# Altium integrated library NSC LDO.IntLib: 1228 symbols (part 10 of 28)
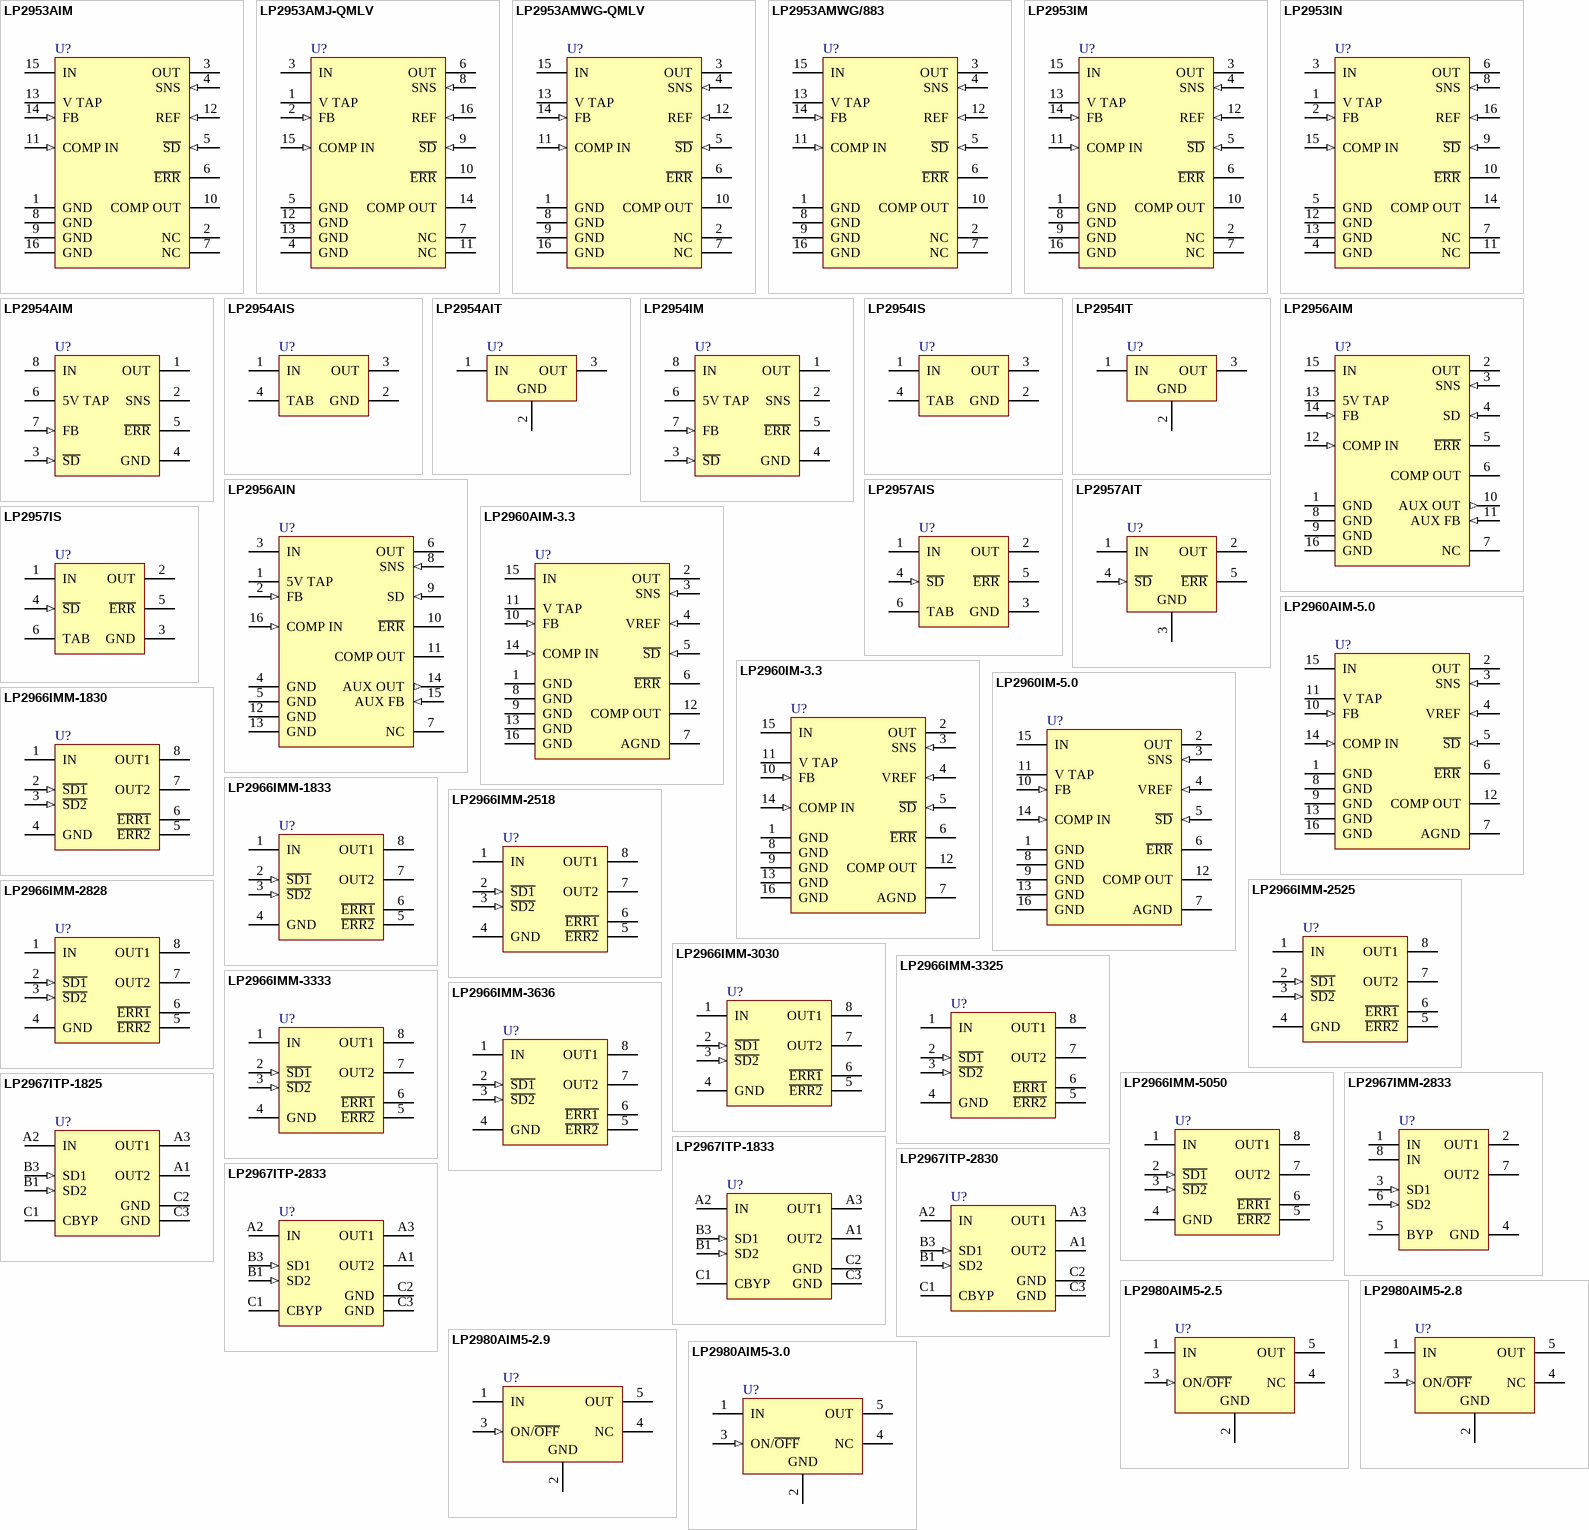
[diagram p39: symbols LP2953AIM to LP2980AIM5-3.0]

## LP2966IMM-2525
designator U?
Dual 150mA Ultra Low-Dropout Regulator; PartNumber: LP2966IMM-2525; Manufacturer: National Semiconductor; CompType: LDO IC; PackageTopMarking: ZXTT*LAAB; PowerWise: N; Published: 4-Dec-2008; DatasheetVersion: Mar-2005; PackageVersion: revF, Apr-2008; PackageReference: MUA08A; Publisher: Altium Limited; PackageDescription: MINI SOIC, .118 x .118 x .034in, 8 Lead, .0256in Pitch; RoHS: Y; PinCount: 8; DigiKeyPartNumber: LP2966IMM-2525CT-ND; Code_JEDEC: MO-187-AA; ComponentLink1Description: LP2966 Datasheet; ComponentLink1URL: http://www.national.com/ds/LP/LP2966.pdf; ComponentLink2Description: LP2966 Web Page; ComponentLink2URL: http://www.national.com/pf/LP/LP2966.html; ComponentLink3Description: MUA08A Package Page; ComponentLink3URL: http://www.national.com/packaging/folders/mua08a.html
footprint MUA08A_N (TSOP, 8-Leads, Body 3x3mm, Pitch 0.65mm, IPC Medium Density)
footprint MUA08A_L (TSOP, 8-Leads, Body 3x3mm, Pitch 0.65mm, IPC High Density)
footprint MUA08A_M (TSOP, 8-Leads, Body 3x3mm, Pitch 0.65mm, IPC Low Density)
pins: 1 IN (power), 2 ~{SD1} (in), 3 ~{SD2} (in), 4 GND (power), 5 ~{ERR2} (oc), 6 ~{ERR1} (oc), 7 OUT2 (power), 8 OUT1 (power)

## LP2966IMM-2828
designator U?
Dual 150mA Ultra Low-Dropout Regulator; PartNumber: LP2966IMM-2828; Manufacturer: National Semiconductor; CompType: LDO IC; PackageTopMarking: ZXTT*LABB; PowerWise: N; Published: 4-Dec-2008; DatasheetVersion: Mar-2005; PackageVersion: revF, Apr-2008; PackageReference: MUA08A; Publisher: Altium Limited; PackageDescription: MINI SOIC, .118 x .118 x .034in, 8 Lead, .0256in Pitch; RoHS: Y; PinCount: 8; DigiKeyPartNumber: LP2966IMM-2828CT-ND; Code_JEDEC: MO-187-AA; ComponentLink1Description: LP2966 Datasheet; ComponentLink1URL: http://www.national.com/ds/LP/LP2966.pdf; ComponentLink2Description: LP2966 Web Page; ComponentLink2URL: http://www.national.com/pf/LP/LP2966.html; ComponentLink3Description: MUA08A Package Page; ComponentLink3URL: http://www.national.com/packaging/folders/mua08a.html
footprint MUA08A_N (TSOP, 8-Leads, Body 3x3mm, Pitch 0.65mm, IPC Medium Density)
footprint MUA08A_L (TSOP, 8-Leads, Body 3x3mm, Pitch 0.65mm, IPC High Density)
footprint MUA08A_M (TSOP, 8-Leads, Body 3x3mm, Pitch 0.65mm, IPC Low Density)
pins: 1 IN (power), 2 ~{SD1} (in), 3 ~{SD2} (in), 4 GND (power), 5 ~{ERR2} (oc), 6 ~{ERR1} (oc), 7 OUT2 (power), 8 OUT1 (power)

## LP2966IMM-3030
designator U?
Dual 150mA Ultra Low-Dropout Regulator; PartNumber: LP2966IMM-3030; Manufacturer: National Semiconductor; CompType: LDO IC; PackageTopMarking: ZXTT*LACB; Published: 4-Dec-2008; DatasheetVersion: Mar-2005; PackageVersion: revF, Apr-2008; PackageReference: MUA08A; Publisher: Altium Limited; PackageDescription: MINI SOIC, .118 x .118 x .034in, 8 Lead, .0256in Pitch; RoHS: Y; PinCount: 8; DigiKeyPartNumber: LP2966IMM-3030CT-ND; Code_JEDEC: MO-187-AA; ComponentLink1Description: LP2966 Datasheet; ComponentLink1URL: http://www.national.com/ds/LP/LP2966.pdf; ComponentLink2Description: LP2966 Web Page; ComponentLink2URL: http://www.national.com/pf/LP/LP2966.html; ComponentLink3Description: MUA08A Package Page; ComponentLink3URL: http://www.national.com/packaging/folders/mua08a.html
footprint MUA08A_N (TSOP, 8-Leads, Body 3x3mm, Pitch 0.65mm, IPC Medium Density)
footprint MUA08A_L (TSOP, 8-Leads, Body 3x3mm, Pitch 0.65mm, IPC High Density)
footprint MUA08A_M (TSOP, 8-Leads, Body 3x3mm, Pitch 0.65mm, IPC Low Density)
pins: 1 IN (power), 2 ~{SD1} (in), 3 ~{SD2} (in), 4 GND (power), 5 ~{ERR2} (oc), 6 ~{ERR1} (oc), 7 OUT2 (power), 8 OUT1 (power)

## LP2966IMM-3325
designator U?
Dual 150mA Ultra Low-Dropout Regulator; PartNumber: LP2966IMM-3325; Manufacturer: National Semiconductor; CompType: LDO IC; PackageTopMarking: ZXTT*LARB; PowerWise: N; Published: 4-Dec-2008; DatasheetVersion: Mar-2005; PackageVersion: revF, Apr-2008; PackageReference: MUA08A; Publisher: Altium Limited; PackageDescription: MINI SOIC, .118 x .118 x .034in, 8 Lead, .0256in Pitch; RoHS: O; PinCount: 8; DigiKeyPartNumber: LP2966IMM-3325CT-ND; Code_JEDEC: MO-187-AA; ComponentLink1Description: LP2966 Datasheet; ComponentLink1URL: http://www.national.com/ds/LP/LP2966.pdf; ComponentLink2Description: LP2966 Web Page; ComponentLink2URL: http://www.national.com/pf/LP/LP2966.html; ComponentLink3Description: MUA08A Package Page; ComponentLink3URL: http://www.national.com/packaging/folders/mua08a.html
footprint MUA08A_N (TSOP, 8-Leads, Body 3x3mm, Pitch 0.65mm, IPC Medium Density)
footprint MUA08A_L (TSOP, 8-Leads, Body 3x3mm, Pitch 0.65mm, IPC High Density)
footprint MUA08A_M (TSOP, 8-Leads, Body 3x3mm, Pitch 0.65mm, IPC Low Density)
pins: 1 IN (power), 2 ~{SD1} (in), 3 ~{SD2} (in), 4 GND (power), 5 ~{ERR2} (oc), 6 ~{ERR1} (oc), 7 OUT2 (power), 8 OUT1 (power)

## LP2966IMM-3333
designator U?
Dual 150mA Ultra Low-Dropout Regulator; PartNumber: LP2966IMM-3333; Manufacturer: National Semiconductor; CompType: LDO IC; PackageTopMarking: ZXTT*LADB; Published: 4-Dec-2008; DatasheetVersion: Mar-2005; PackageVersion: revF, Apr-2008; PackageReference: MUA08A; Publisher: Altium Limited; PackageDescription: MINI SOIC, .118 x .118 x .034in, 8 Lead, .0256in Pitch; RoHS: Y; PinCount: 8; DigiKeyPartNumber: LP2966IMM-3333CT-ND; Code_JEDEC: MO-187-AA; ComponentLink1Description: LP2966 Datasheet; ComponentLink1URL: http://www.national.com/ds/LP/LP2966.pdf; ComponentLink2Description: LP2966 Web Page; ComponentLink2URL: http://www.national.com/pf/LP/LP2966.html; ComponentLink3Description: MUA08A Package Page; ComponentLink3URL: http://www.national.com/packaging/folders/mua08a.html
footprint MUA08A_N (TSOP, 8-Leads, Body 3x3mm, Pitch 0.65mm, IPC Medium Density)
footprint MUA08A_L (TSOP, 8-Leads, Body 3x3mm, Pitch 0.65mm, IPC High Density)
footprint MUA08A_M (TSOP, 8-Leads, Body 3x3mm, Pitch 0.65mm, IPC Low Density)
pins: 1 IN (power), 2 ~{SD1} (in), 3 ~{SD2} (in), 4 GND (power), 5 ~{ERR2} (oc), 6 ~{ERR1} (oc), 7 OUT2 (power), 8 OUT1 (power)

## LP2966IMM-3636
designator U?
Dual 150mA Ultra Low-Dropout Regulator; PartNumber: LP2966IMM-3636; Manufacturer: National Semiconductor; CompType: LDO IC; PackageTopMarking: ZXTT*LAEB; Published: 4-Dec-2008; DatasheetVersion: Mar-2005; PackageVersion: revF, Apr-2008; PackageReference: MUA08A; Publisher: Altium Limited; PackageDescription: MINI SOIC, .118 x .118 x .034in, 8 Lead, .0256in Pitch; RoHS: Y; PinCount: 8; DigiKeyPartNumber: LP2966IMM-3636CT-ND; Code_JEDEC: MO-187-AA; ComponentLink1Description: LP2966 Datasheet; ComponentLink1URL: http://www.national.com/ds/LP/LP2966.pdf; ComponentLink2Description: LP2966 Web Page; ComponentLink2URL: http://www.national.com/pf/LP/LP2966.html; ComponentLink3Description: MUA08A Package Page; ComponentLink3URL: http://www.national.com/packaging/folders/mua08a.html
footprint MUA08A_N (TSOP, 8-Leads, Body 3x3mm, Pitch 0.65mm, IPC Medium Density)
footprint MUA08A_L (TSOP, 8-Leads, Body 3x3mm, Pitch 0.65mm, IPC High Density)
footprint MUA08A_M (TSOP, 8-Leads, Body 3x3mm, Pitch 0.65mm, IPC Low Density)
pins: 1 IN (power), 2 ~{SD1} (in), 3 ~{SD2} (in), 4 GND (power), 5 ~{ERR2} (oc), 6 ~{ERR1} (oc), 7 OUT2 (power), 8 OUT1 (power)

## LP2966IMM-5050
designator U?
Dual 150mA Ultra Low-Dropout Regulator; PartNumber: LP2966IMM-5050; Manufacturer: National Semiconductor; CompType: LDO IC; PackageTopMarking: ZXTT*LAFB; PowerWise: N; Published: 4-Dec-2008; DatasheetVersion: Mar-2005; PackageVersion: revF, Apr-2008; PackageReference: MUA08A; Publisher: Altium Limited; PackageDescription: MINI SOIC, .118 x .118 x .034in, 8 Lead, .0256in Pitch; RoHS: Y; PinCount: 8; DigiKeyPartNumber: LP2966IMM-5050CT-ND; Code_JEDEC: MO-187-AA; ComponentLink1Description: LP2966 Datasheet; ComponentLink1URL: http://www.national.com/ds/LP/LP2966.pdf; ComponentLink2Description: LP2966 Web Page; ComponentLink2URL: http://www.national.com/pf/LP/LP2966.html; ComponentLink3Description: MUA08A Package Page; ComponentLink3URL: http://www.national.com/packaging/folders/mua08a.html
footprint MUA08A_N (TSOP, 8-Leads, Body 3x3mm, Pitch 0.65mm, IPC Medium Density)
footprint MUA08A_L (TSOP, 8-Leads, Body 3x3mm, Pitch 0.65mm, IPC High Density)
footprint MUA08A_M (TSOP, 8-Leads, Body 3x3mm, Pitch 0.65mm, IPC Low Density)
pins: 1 IN (power), 2 ~{SD1} (in), 3 ~{SD2} (in), 4 GND (power), 5 ~{ERR2} (oc), 6 ~{ERR1} (oc), 7 OUT2 (power), 8 OUT1 (power)

## LP2967IMM-2833
designator U?
Dual Micropower 150 mA Low-Dropout Regulator in micro SMD Package; PartNumber: LP2967IMM-2833; Manufacturer: National Semiconductor; CompType: LDO IC; PackageTopMarking: ZXTT*LCCB; Published: 4-Dec-2008; DatasheetVersion: Jun-2005; PackageVersion: revF, Apr-2008; PackageReference: MUA08A; Publisher: Altium Limited; PackageDescription: MINI SOIC, .118 x .118 x .034in, 8 Lead, .0256in Pitch; RoHS: Y; PinCount: 8; DigiKeyPartNumber: LP2967IMM-2833CT-ND; Code_JEDEC: MO-187-AA; ComponentLink1Description: LP2967 Datasheet; ComponentLink1URL: http://www.national.com/ds/LP/LP2967.pdf; ComponentLink2Description: LP2967 Web Page; ComponentLink2URL: http://www.national.com/pf/LP/LP2967.html; ComponentLink3Description: MUA08A Package Page; ComponentLink3URL: http://www.national.com/packaging/folders/mua08a.html
footprint MUA08A_N (TSOP, 8-Leads, Body 3x3mm, Pitch 0.65mm, IPC Medium Density)
footprint MUA08A_L (TSOP, 8-Leads, Body 3x3mm, Pitch 0.65mm, IPC High Density)
footprint MUA08A_M (TSOP, 8-Leads, Body 3x3mm, Pitch 0.65mm, IPC Low Density)
pins: 1 IN (power), 2 OUT1 (power), 3 SD1 (in), 4 GND (power), 5 BYP, 6 SD2 (in), 7 OUT2 (power), 8 IN (power)

## LP2967ITP-1825
designator U?
Dual Micropower 150 mA Low-Dropout Regulator in micro SMD Package; PartNumber: LP2967ITP-1825; Manufacturer: National Semiconductor; CompType: LDO IC; PackageTopMarking: XVL*I 07; PowerWise: N; Published: 4-Dec-2008; DatasheetVersion: Jun-2005; PackageVersion: revA, Mar-2002; PackageReference: TPA08F5A; Publisher: Altium Limited; PackageDescription: Thin Micro SMD, 8 Bump, 0.5mm Pitch; RoHS: Y; PinCount: 8; DigiKeyPartNumber: LP2967ITP-1825CT-ND; Code_JEDEC: MO-211-BC; ComponentLink1Description: LP2967 Datasheet; ComponentLink1URL: http://www.national.com/ds/LP/LP2967.pdf; ComponentLink2Description: LP2967 Web Page; ComponentLink2URL: http://www.national.com/pf/LP/LP2967.html; ComponentLink3Description: TPA08F5A Package Page; ComponentLink3URL: http://www.national.com/packaging/folders/tpa08f5a.html
footprint TPA08F5A (Micro SMD, 8-Leads, Body 1.95x1.41mm, Pitch 0.5mm, NSC Recommended)
pins: A1 OUT2 (power), A2 IN (power), A3 OUT1 (power), B1 SD2 (in), B3 SD1 (in), C1 CBYP, C2 GND (power), C3 GND (power)

## LP2967ITP-1833
designator U?
Dual Micropower 150 mA Low-Dropout Regulator in micro SMD Package; PartNumber: LP2967ITP-1833; Manufacturer: National Semiconductor; CompType: LDO IC; PackageTopMarking: XVL*I 11; PowerWise: N; Published: 4-Dec-2008; DatasheetVersion: Jun-2005; PackageVersion: revA, Mar-2002; PackageReference: TPA08F5A; Publisher: Altium Limited; PackageDescription: Thin Micro SMD, 8 Bump, 0.5mm Pitch; RoHS: Y; PinCount: 8; DigiKeyPartNumber: LP2967ITP-1833CT-ND; Code_JEDEC: MO-211-BC; ComponentLink1Description: LP2967 Datasheet; ComponentLink1URL: http://www.national.com/ds/LP/LP2967.pdf; ComponentLink2Description: LP2967 Web Page; ComponentLink2URL: http://www.national.com/pf/LP/LP2967.html; ComponentLink3Description: TPA08F5A Package Page; ComponentLink3URL: http://www.national.com/packaging/folders/tpa08f5a.html
footprint TPA08F5A (Micro SMD, 8-Leads, Body 1.95x1.41mm, Pitch 0.5mm, NSC Recommended)
pins: A1 OUT2 (power), A2 IN (power), A3 OUT1 (power), B1 SD2 (in), B3 SD1 (in), C1 CBYP, C2 GND (power), C3 GND (power)

## LP2967ITP-2830
designator U?
Dual Micropower 150 mA Low-Dropout Regulator in micro SMD Package; PartNumber: LP2967ITP-2830; Manufacturer: National Semiconductor; CompType: LDO IC; PackageTopMarking: XVL*I 22; PowerWise: N; Published: 4-Dec-2008; DatasheetVersion: Jun-2005; PackageVersion: revA, Mar-2002; PackageReference: TPA08F5A; Publisher: Altium Limited; PackageDescription: Thin Micro SMD, 8 Bump, 0.5mm Pitch; RoHS: Y; PinCount: 8; DigiKeyPartNumber: LP2967ITP-2830CT-ND; Code_JEDEC: MO-211-BC; ComponentLink1Description: LP2967 Datasheet; ComponentLink1URL: http://www.national.com/ds/LP/LP2967.pdf; ComponentLink2Description: LP2967 Web Page; ComponentLink2URL: http://www.national.com/pf/LP/LP2967.html; ComponentLink3Description: TPA08F5A Package Page; ComponentLink3URL: http://www.national.com/packaging/folders/tpa08f5a.html
footprint TPA08F5A (Micro SMD, 8-Leads, Body 1.95x1.41mm, Pitch 0.5mm, NSC Recommended)
pins: A1 OUT2 (power), A2 IN (power), A3 OUT1 (power), B1 SD2 (in), B3 SD1 (in), C1 CBYP, C2 GND (power), C3 GND (power)

## LP2967ITP-2833
designator U?
Dual Micropower 150 mA Low-Dropout Regulator in micro SMD Package; PartNumber: LP2967ITP-2833; Manufacturer: National Semiconductor; CompType: LDO IC; PackageTopMarking: XVL*I 09; PowerWise: N; Published: 4-Dec-2008; DatasheetVersion: Jun-2005; PackageVersion: revA, Mar-2002; PackageReference: TPA08F5A; Publisher: Altium Limited; PackageDescription: Thin Micro SMD, 8 Bump, 0.5mm Pitch; RoHS: Y; PinCount: 8; DigiKeyPartNumber: LP2967ITP-2833CT-ND; Code_JEDEC: MO-211-BC; ComponentLink1Description: LP2967 Datasheet; ComponentLink1URL: http://www.national.com/ds/LP/LP2967.pdf; ComponentLink2Description: LP2967 Web Page; ComponentLink2URL: http://www.national.com/pf/LP/LP2967.html; ComponentLink3Description: TPA08F5A Package Page; ComponentLink3URL: http://www.national.com/packaging/folders/tpa08f5a.html
footprint TPA08F5A (Micro SMD, 8-Leads, Body 1.95x1.41mm, Pitch 0.5mm, NSC Recommended)
pins: A1 OUT2 (power), A2 IN (power), A3 OUT1 (power), B1 SD2 (in), B3 SD1 (in), C1 CBYP, C2 GND (power), C3 GND (power)

## LP2980AIM5-2.5
designator U?
Micropower 50 mA Ultra Low-Dropout Regulator In SOT-23 and micro SMD Packages; PartNumber: LP2980AIM5-2.5; Manufacturer: National Semiconductor; CompType: LDO IC; PackageTopMarking: L0NA*XTT; PowerWise: N; Published: 4-Dec-2008; DatasheetVersion: Sep-2006; PackageVersion: revD, Aug-2008; PackageReference: MF05A; Publisher: Altium Limited; PackageDescription: Molded SOT-23, .115 x .063 x .040 in Body, 5 Lead, .0375 in Pitch; RoHS: O; PinCount: 5; DigiKeyPartNumber: LP2980AIM5-2.5CT-ND; ComponentLink1Description: LP2980 Datasheet; ComponentLink1URL: http://www.national.com/ds/LP/LP2980.pdf; ComponentLink2Description: LP2980 Web Page; ComponentLink2URL: http://www.national.com/pf/LP/LP2980.html; ComponentLink3Description: MF05A Package Page; ComponentLink3URL: http://www.national.com/packaging/folders/mf05a.html
footprint MF05A_N (SOT23, 5-Leads, Body 2.9x1.6mm, Pitch 0.95mm, Lead Span 2.8mm, IPC Medium Density)
footprint MF05A_L (SOT23, 5-Leads, Body 2.9x1.6mm, Pitch 0.95mm, Lead Span 2.8mm, IPC High Density)
footprint MF05A_M (SOT23, 5-Leads, Body 2.9x1.6mm, Pitch 0.95mm, Lead Span 2.8mm, IPC Low Density)
pins: 1 IN (power), 2 GND (power), 3 ON/~{OFF} (in), 4 NC, 5 OUT (power)

## LP2980AIM5-2.8
designator U?
Micropower 50 mA Ultra Low-Dropout Regulator In SOT-23 and micro SMD Packages; PartNumber: LP2980AIM5-2.8; Manufacturer: National Semiconductor; CompType: LDO IC; PackageTopMarking: L13A*XTT; Published: 4-Dec-2008; DatasheetVersion: Sep-2006; PackageVersion: revD, Aug-2008; PackageReference: MF05A; Publisher: Altium Limited; PackageDescription: Molded SOT-23, .115 x .063 x .040 in Body, 5 Lead, .0375 in Pitch; RoHS: Y; PinCount: 5; DigiKeyPartNumber: LP2980AIM5-2.8-ND; ComponentLink1Description: LP2980 Datasheet; ComponentLink1URL: http://www.national.com/ds/LP/LP2980.pdf; ComponentLink2Description: LP2980 Web Page; ComponentLink2URL: http://www.national.com/pf/LP/LP2980.html; ComponentLink3Description: MF05A Package Page; ComponentLink3URL: http://www.national.com/packaging/folders/mf05a.html
footprint MF05A_N (SOT23, 5-Leads, Body 2.9x1.6mm, Pitch 0.95mm, Lead Span 2.8mm, IPC Medium Density)
footprint MF05A_L (SOT23, 5-Leads, Body 2.9x1.6mm, Pitch 0.95mm, Lead Span 2.8mm, IPC High Density)
footprint MF05A_M (SOT23, 5-Leads, Body 2.9x1.6mm, Pitch 0.95mm, Lead Span 2.8mm, IPC Low Density)
pins: 1 IN (power), 2 GND (power), 3 ON/~{OFF} (in), 4 NC, 5 OUT (power)

## LP2980AIM5-2.9
designator U?
Micropower 50 mA Ultra Low-Dropout Regulator In SOT-23 and micro SMD Packages; PartNumber: LP2980AIM5-2.9; Manufacturer: National Semiconductor; CompType: LDO IC; PackageTopMarking: L12A*XTT; Published: 4-Dec-2008; DatasheetVersion: Sep-2006; PackageVersion: revD, Aug-2008; PackageReference: MF05A; Publisher: Altium Limited; PackageDescription: Molded SOT-23, .115 x .063 x .040 in Body, 5 Lead, .0375 in Pitch; RoHS: Y; PinCount: 5; DigiKeyPartNumber: LP2980AIM5-2.9-ND; ComponentLink1Description: LP2980 Datasheet; ComponentLink1URL: http://www.national.com/ds/LP/LP2980.pdf; ComponentLink2Description: LP2980 Web Page; ComponentLink2URL: http://www.national.com/pf/LP/LP2980.html; ComponentLink3Description: MF05A Package Page; ComponentLink3URL: http://www.national.com/packaging/folders/mf05a.html
footprint MF05A_N (SOT23, 5-Leads, Body 2.9x1.6mm, Pitch 0.95mm, Lead Span 2.8mm, IPC Medium Density)
footprint MF05A_L (SOT23, 5-Leads, Body 2.9x1.6mm, Pitch 0.95mm, Lead Span 2.8mm, IPC High Density)
footprint MF05A_M (SOT23, 5-Leads, Body 2.9x1.6mm, Pitch 0.95mm, Lead Span 2.8mm, IPC Low Density)
pins: 1 IN (power), 2 GND (power), 3 ON/~{OFF} (in), 4 NC, 5 OUT (power)

## LP2980AIM5-3.0
designator U?
Micropower 50 mA Ultra Low-Dropout Regulator In SOT-23 and micro SMD Packages; PartNumber: LP2980AIM5-3.0; Manufacturer: National Semiconductor; CompType: LDO IC; PackageTopMarking: L02A*XTT; PowerWise: N; Published: 4-Dec-2008; DatasheetVersion: Sep-2006; PackageVersion: revD, Aug-2008; PackageReference: MF05A; Publisher: Altium Limited; PackageDescription: Molded SOT-23, .115 x .063 x .040 in Body, 5 Lead, .0375 in Pitch; RoHS: O; PinCount: 5; DigiKeyPartNumber: LP2980AIM5-3.0CT-ND; ComponentLink1Description: LP2980 Datasheet; ComponentLink1URL: http://www.national.com/ds/LP/LP2980.pdf; ComponentLink2Description: LP2980 Web Page; ComponentLink2URL: http://www.national.com/pf/LP/LP2980.html; ComponentLink3Description: MF05A Package Page; ComponentLink3URL: http://www.national.com/packaging/folders/mf05a.html
footprint MF05A_N (SOT23, 5-Leads, Body 2.9x1.6mm, Pitch 0.95mm, Lead Span 2.8mm, IPC Medium Density)
footprint MF05A_L (SOT23, 5-Leads, Body 2.9x1.6mm, Pitch 0.95mm, Lead Span 2.8mm, IPC High Density)
footprint MF05A_M (SOT23, 5-Leads, Body 2.9x1.6mm, Pitch 0.95mm, Lead Span 2.8mm, IPC Low Density)
pins: 1 IN (power), 2 GND (power), 3 ON/~{OFF} (in), 4 NC, 5 OUT (power)

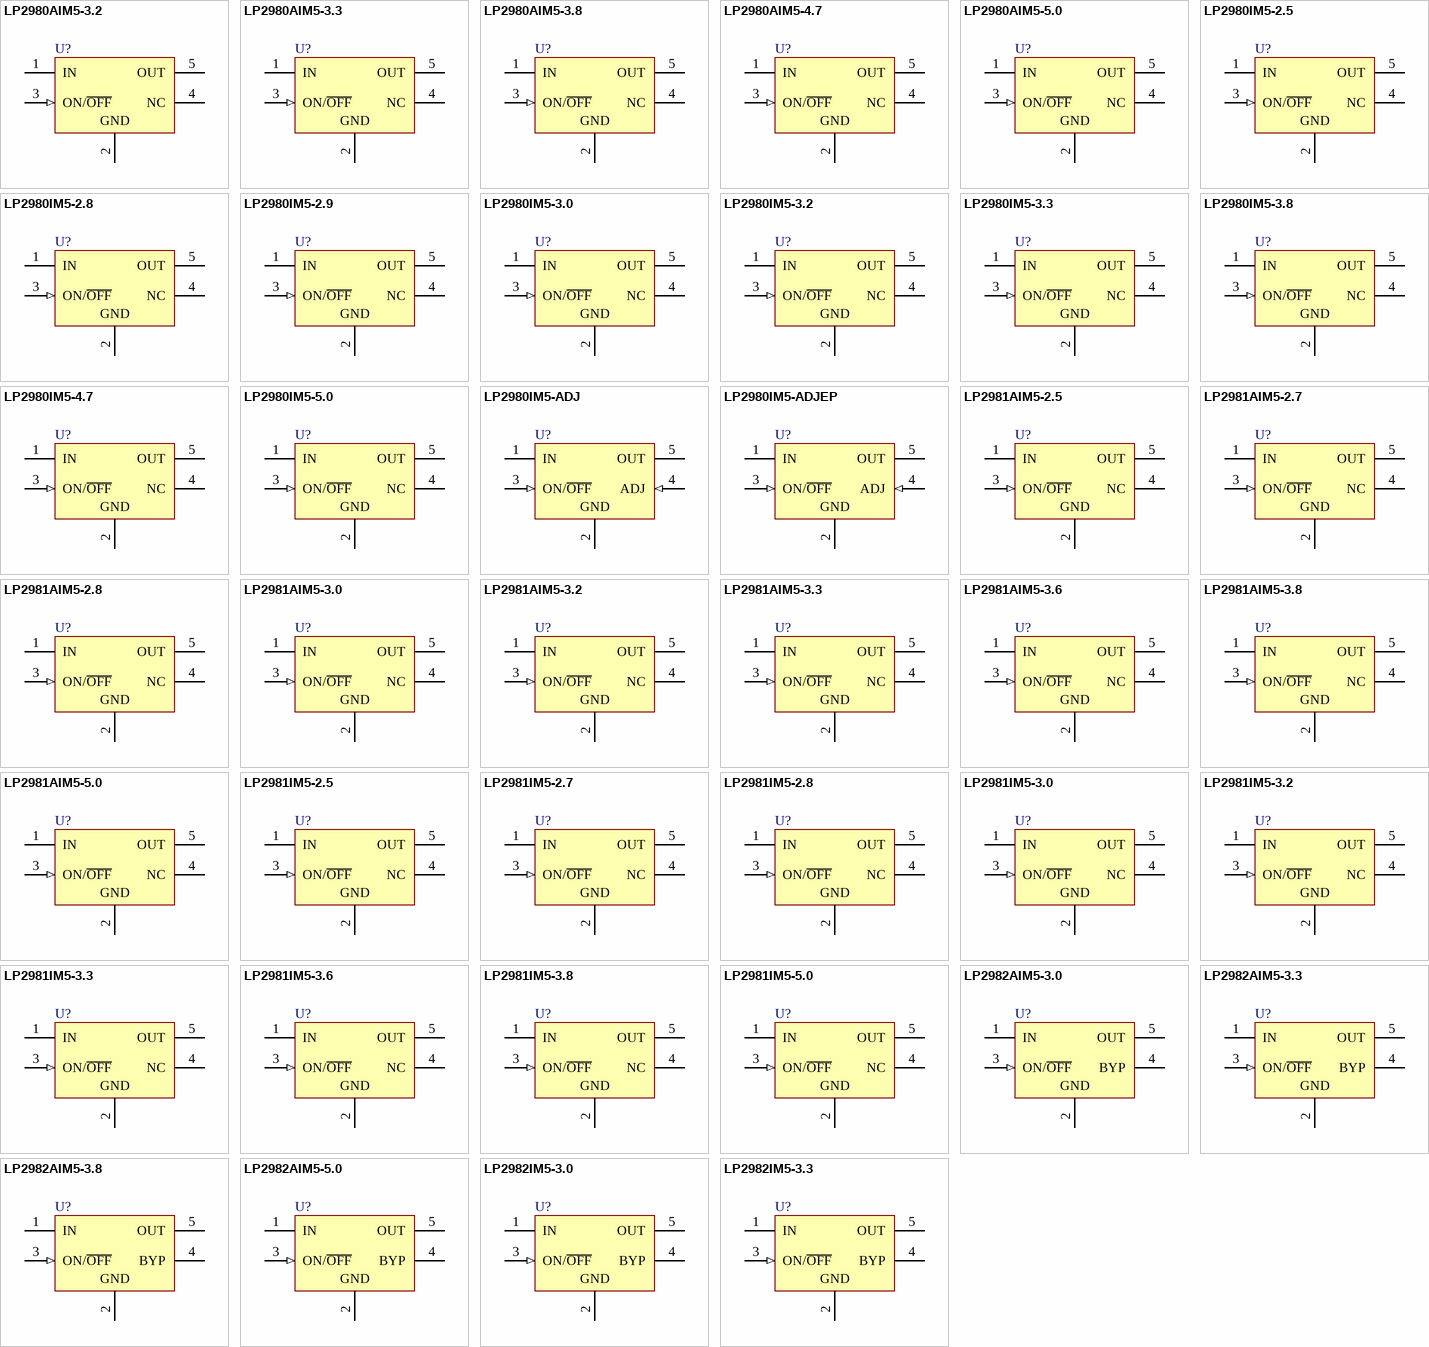
[diagram p11: symbols LP2980AIM5-3.2 to LP2982IM5-3.3]

## LP2980AIM5-3.2
designator U?
Micropower 50 mA Ultra Low-Dropout Regulator In SOT-23 and micro SMD Packages; PartNumber: LP2980AIM5-3.2; Manufacturer: National Semiconductor; CompType: LDO IC; PackageTopMarking: L31A*XTT; Published: 4-Dec-2008; DatasheetVersion: Sep-2006; PackageVersion: revD, Aug-2008; PackageReference: MF05A; Publisher: Altium Limited; PackageDescription: Molded SOT-23, .115 x .063 x .040 in Body, 5 Lead, .0375 in Pitch; RoHS: Y; PinCount: 5; DigiKeyPartNumber: LP2980AIM5-3.2-ND; ComponentLink1Description: LP2980 Datasheet; ComponentLink1URL: http://www.national.com/ds/LP/LP2980.pdf; ComponentLink2Description: LP2980 Web Page; ComponentLink2URL: http://www.national.com/pf/LP/LP2980.html; ComponentLink3Description: MF05A Package Page; ComponentLink3URL: http://www.national.com/packaging/folders/mf05a.html
footprint MF05A_N (SOT23, 5-Leads, Body 2.9x1.6mm, Pitch 0.95mm, Lead Span 2.8mm, IPC Medium Density)
footprint MF05A_L (SOT23, 5-Leads, Body 2.9x1.6mm, Pitch 0.95mm, Lead Span 2.8mm, IPC High Density)
footprint MF05A_M (SOT23, 5-Leads, Body 2.9x1.6mm, Pitch 0.95mm, Lead Span 2.8mm, IPC Low Density)
pins: 1 IN (power), 2 GND (power), 3 ON/~{OFF} (in), 4 NC, 5 OUT (power)

## LP2980AIM5-3.3
designator U?
Micropower 50 mA Ultra Low-Dropout Regulator In SOT-23 and micro SMD Packages; PartNumber: LP2980AIM5-3.3; Manufacturer: National Semiconductor; CompType: LDO IC; PackageTopMarking: L00A*XTT; PowerWise: N; Published: 4-Dec-2008; DatasheetVersion: Sep-2006; PackageVersion: revD, Aug-2008; PackageReference: MF05A; Publisher: Altium Limited; PackageDescription: Molded SOT-23, .115 x .063 x .040 in Body, 5 Lead, .0375 in Pitch; RoHS: O; PinCount: 5; DigiKeyPartNumber: LP2980AIM5-3.3CT-ND; ComponentLink1Description: LP2980 Datasheet; ComponentLink1URL: http://www.national.com/ds/LP/LP2980.pdf; ComponentLink2Description: LP2980 Web Page; ComponentLink2URL: http://www.national.com/pf/LP/LP2980.html; ComponentLink3Description: MF05A Package Page; ComponentLink3URL: http://www.national.com/packaging/folders/mf05a.html
footprint MF05A_N (SOT23, 5-Leads, Body 2.9x1.6mm, Pitch 0.95mm, Lead Span 2.8mm, IPC Medium Density)
footprint MF05A_L (SOT23, 5-Leads, Body 2.9x1.6mm, Pitch 0.95mm, Lead Span 2.8mm, IPC High Density)
footprint MF05A_M (SOT23, 5-Leads, Body 2.9x1.6mm, Pitch 0.95mm, Lead Span 2.8mm, IPC Low Density)
pins: 1 IN (power), 2 GND (power), 3 ON/~{OFF} (in), 4 NC, 5 OUT (power)

## LP2980AIM5-3.8
designator U?
Micropower 50 mA Ultra Low-Dropout Regulator In SOT-23 and micro SMD Packages; PartNumber: LP2980AIM5-3.8; Manufacturer: National Semiconductor; CompType: LDO IC; PackageTopMarking: L21A*XTT; Published: 4-Dec-2008; DatasheetVersion: Sep-2006; PackageVersion: revD, Aug-2008; PackageReference: MF05A; Publisher: Altium Limited; PackageDescription: Molded SOT-23, .115 x .063 x .040 in Body, 5 Lead, .0375 in Pitch; RoHS: Y; PinCount: 5; DigiKeyPartNumber: LP2980AIM5-3.8-ND; ComponentLink1Description: LP2980 Datasheet; ComponentLink1URL: http://www.national.com/ds/LP/LP2980.pdf; ComponentLink2Description: LP2980 Web Page; ComponentLink2URL: http://www.national.com/pf/LP/LP2980.html; ComponentLink3Description: MF05A Package Page; ComponentLink3URL: http://www.national.com/packaging/folders/mf05a.html
footprint MF05A_N (SOT23, 5-Leads, Body 2.9x1.6mm, Pitch 0.95mm, Lead Span 2.8mm, IPC Medium Density)
footprint MF05A_L (SOT23, 5-Leads, Body 2.9x1.6mm, Pitch 0.95mm, Lead Span 2.8mm, IPC High Density)
footprint MF05A_M (SOT23, 5-Leads, Body 2.9x1.6mm, Pitch 0.95mm, Lead Span 2.8mm, IPC Low Density)
pins: 1 IN (power), 2 GND (power), 3 ON/~{OFF} (in), 4 NC, 5 OUT (power)

## LP2980AIM5-4.7
designator U?
Micropower 50 mA Ultra Low-Dropout Regulator In SOT-23 and micro SMD Packages; PartNumber: LP2980AIM5-4.7; Manufacturer: National Semiconductor; CompType: LDO IC; PackageTopMarking: L37A*XTT; PowerWise: N; Published: 4-Dec-2008; DatasheetVersion: Sep-2006; PackageVersion: revD, Aug-2008; PackageReference: MF05A; Publisher: Altium Limited; PackageDescription: Molded SOT-23, .115 x .063 x .040 in Body, 5 Lead, .0375 in Pitch; RoHS: Y; PinCount: 5; DigiKeyPartNumber: LP2980AIM5-4.7-ND; ComponentLink1Description: LP2980 Datasheet; ComponentLink1URL: http://www.national.com/ds/LP/LP2980.pdf; ComponentLink2Description: LP2980 Web Page; ComponentLink2URL: http://www.national.com/pf/LP/LP2980.html; ComponentLink3Description: MF05A Package Page; ComponentLink3URL: http://www.national.com/packaging/folders/mf05a.html
footprint MF05A_N (SOT23, 5-Leads, Body 2.9x1.6mm, Pitch 0.95mm, Lead Span 2.8mm, IPC Medium Density)
footprint MF05A_L (SOT23, 5-Leads, Body 2.9x1.6mm, Pitch 0.95mm, Lead Span 2.8mm, IPC High Density)
footprint MF05A_M (SOT23, 5-Leads, Body 2.9x1.6mm, Pitch 0.95mm, Lead Span 2.8mm, IPC Low Density)
pins: 1 IN (power), 2 GND (power), 3 ON/~{OFF} (in), 4 NC, 5 OUT (power)

## LP2980AIM5-5.0
designator U?
Micropower 50 mA Ultra Low-Dropout Regulator In SOT-23 and micro SMD Packages; PartNumber: LP2980AIM5-5.0; Manufacturer: National Semiconductor; CompType: LDO IC; PackageTopMarking: L01A*XTT; PowerWise: N; Published: 4-Dec-2008; DatasheetVersion: Sep-2006; PackageVersion: revD, Aug-2008; PackageReference: MF05A; Publisher: Altium Limited; PackageDescription: Molded SOT-23, .115 x .063 x .040 in Body, 5 Lead, .0375 in Pitch; RoHS: O; PinCount: 5; DigiKeyPartNumber: LP2980AIM5-5.0CT-ND; ComponentLink1Description: LP2980 Datasheet; ComponentLink1URL: http://www.national.com/ds/LP/LP2980.pdf; ComponentLink2Description: LP2980 Web Page; ComponentLink2URL: http://www.national.com/pf/LP/LP2980.html; ComponentLink3Description: MF05A Package Page; ComponentLink3URL: http://www.national.com/packaging/folders/mf05a.html
footprint MF05A_N (SOT23, 5-Leads, Body 2.9x1.6mm, Pitch 0.95mm, Lead Span 2.8mm, IPC Medium Density)
footprint MF05A_L (SOT23, 5-Leads, Body 2.9x1.6mm, Pitch 0.95mm, Lead Span 2.8mm, IPC High Density)
footprint MF05A_M (SOT23, 5-Leads, Body 2.9x1.6mm, Pitch 0.95mm, Lead Span 2.8mm, IPC Low Density)
pins: 1 IN (power), 2 GND (power), 3 ON/~{OFF} (in), 4 NC, 5 OUT (power)

## LP2980IM5-2.5
designator U?
Micropower 50 mA Ultra Low-Dropout Regulator In SOT-23 and micro SMD Packages; PartNumber: LP2980IM5-2.5; Manufacturer: National Semiconductor; CompType: LDO IC; PackageTopMarking: L0NB*XTT; PowerWise: N; Published: 4-Dec-2008; DatasheetVersion: Sep-2006; PackageVersion: revD, Aug-2008; PackageReference: MF05A; Publisher: Altium Limited; PackageDescription: Molded SOT-23, .115 x .063 x .040 in Body, 5 Lead, .0375 in Pitch; RoHS: Y; PinCount: 5; DigiKeyPartNumber: LP2980IM5-2.5CT-ND; ComponentLink1Description: LP2980 Datasheet; ComponentLink1URL: http://www.national.com/ds/LP/LP2980.pdf; ComponentLink2Description: LP2980 Web Page; ComponentLink2URL: http://www.national.com/pf/LP/LP2980.html; ComponentLink3Description: MF05A Package Page; ComponentLink3URL: http://www.national.com/packaging/folders/mf05a.html
footprint MF05A_N (SOT23, 5-Leads, Body 2.9x1.6mm, Pitch 0.95mm, Lead Span 2.8mm, IPC Medium Density)
footprint MF05A_L (SOT23, 5-Leads, Body 2.9x1.6mm, Pitch 0.95mm, Lead Span 2.8mm, IPC High Density)
footprint MF05A_M (SOT23, 5-Leads, Body 2.9x1.6mm, Pitch 0.95mm, Lead Span 2.8mm, IPC Low Density)
pins: 1 IN (power), 2 GND (power), 3 ON/~{OFF} (in), 4 NC, 5 OUT (power)

## LP2980IM5-2.8
designator U?
Micropower 50 mA Ultra Low-Dropout Regulator In SOT-23 and micro SMD Packages; PartNumber: LP2980IM5-2.8; Manufacturer: National Semiconductor; CompType: LDO IC; PackageTopMarking: L13B*XTT; Published: 4-Dec-2008; DatasheetVersion: Sep-2006; PackageVersion: revD, Aug-2008; PackageReference: MF05A; Publisher: Altium Limited; PackageDescription: Molded SOT-23, .115 x .063 x .040 in Body, 5 Lead, .0375 in Pitch; RoHS: Y; PinCount: 5; DigiKeyPartNumber: LP2980IM5-2.8-ND; ComponentLink1Description: LP2980 Datasheet; ComponentLink1URL: http://www.national.com/ds/LP/LP2980.pdf; ComponentLink2Description: LP2980 Web Page; ComponentLink2URL: http://www.national.com/pf/LP/LP2980.html; ComponentLink3Description: MF05A Package Page; ComponentLink3URL: http://www.national.com/packaging/folders/mf05a.html
footprint MF05A_N (SOT23, 5-Leads, Body 2.9x1.6mm, Pitch 0.95mm, Lead Span 2.8mm, IPC Medium Density)
footprint MF05A_L (SOT23, 5-Leads, Body 2.9x1.6mm, Pitch 0.95mm, Lead Span 2.8mm, IPC High Density)
footprint MF05A_M (SOT23, 5-Leads, Body 2.9x1.6mm, Pitch 0.95mm, Lead Span 2.8mm, IPC Low Density)
pins: 1 IN (power), 2 GND (power), 3 ON/~{OFF} (in), 4 NC, 5 OUT (power)

## LP2980IM5-2.9
designator U?
Micropower 50 mA Ultra Low-Dropout Regulator In SOT-23 and micro SMD Packages; PartNumber: LP2980IM5-2.9; Manufacturer: National Semiconductor; CompType: LDO IC; PackageTopMarking: L12B*XTT; Published: 4-Dec-2008; DatasheetVersion: Sep-2006; PackageVersion: revD, Aug-2008; PackageReference: MF05A; Publisher: Altium Limited; PackageDescription: Molded SOT-23, .115 x .063 x .040 in Body, 5 Lead, .0375 in Pitch; RoHS: Y; PinCount: 5; DigiKeyPartNumber: LP2980IM5-2.9-ND; ComponentLink1Description: LP2980 Datasheet; ComponentLink1URL: http://www.national.com/ds/LP/LP2980.pdf; ComponentLink2Description: LP2980 Web Page; ComponentLink2URL: http://www.national.com/pf/LP/LP2980.html; ComponentLink3Description: MF05A Package Page; ComponentLink3URL: http://www.national.com/packaging/folders/mf05a.html
footprint MF05A_N (SOT23, 5-Leads, Body 2.9x1.6mm, Pitch 0.95mm, Lead Span 2.8mm, IPC Medium Density)
footprint MF05A_L (SOT23, 5-Leads, Body 2.9x1.6mm, Pitch 0.95mm, Lead Span 2.8mm, IPC High Density)
footprint MF05A_M (SOT23, 5-Leads, Body 2.9x1.6mm, Pitch 0.95mm, Lead Span 2.8mm, IPC Low Density)
pins: 1 IN (power), 2 GND (power), 3 ON/~{OFF} (in), 4 NC, 5 OUT (power)

## LP2980IM5-3.0
designator U?
Micropower 50 mA Ultra Low-Dropout Regulator In SOT-23 and micro SMD Packages; PartNumber: LP2980IM5-3.0; Manufacturer: National Semiconductor; CompType: LDO IC; PackageTopMarking: L02B*XTT; PowerWise: N; Published: 4-Dec-2008; DatasheetVersion: Sep-2006; PackageVersion: revD, Aug-2008; PackageReference: MF05A; Publisher: Altium Limited; PackageDescription: Molded SOT-23, .115 x .063 x .040 in Body, 5 Lead, .0375 in Pitch; RoHS: O; PinCount: 5; DigiKeyPartNumber: LP2980IM5-3.0CT-ND; ComponentLink1Description: LP2980 Datasheet; ComponentLink1URL: http://www.national.com/ds/LP/LP2980.pdf; ComponentLink2Description: LP2980 Web Page; ComponentLink2URL: http://www.national.com/pf/LP/LP2980.html; ComponentLink3Description: MF05A Package Page; ComponentLink3URL: http://www.national.com/packaging/folders/mf05a.html
footprint MF05A_N (SOT23, 5-Leads, Body 2.9x1.6mm, Pitch 0.95mm, Lead Span 2.8mm, IPC Medium Density)
footprint MF05A_L (SOT23, 5-Leads, Body 2.9x1.6mm, Pitch 0.95mm, Lead Span 2.8mm, IPC High Density)
footprint MF05A_M (SOT23, 5-Leads, Body 2.9x1.6mm, Pitch 0.95mm, Lead Span 2.8mm, IPC Low Density)
pins: 1 IN (power), 2 GND (power), 3 ON/~{OFF} (in), 4 NC, 5 OUT (power)

## LP2980IM5-3.2
designator U?
Micropower 50 mA Ultra Low-Dropout Regulator In SOT-23 and micro SMD Packages; PartNumber: LP2980IM5-3.2; Manufacturer: National Semiconductor; CompType: LDO IC; PackageTopMarking: L31B*XTT; Published: 4-Dec-2008; DatasheetVersion: Sep-2006; PackageVersion: revD, Aug-2008; PackageReference: MF05A; Publisher: Altium Limited; PackageDescription: Molded SOT-23, .115 x .063 x .040 in Body, 5 Lead, .0375 in Pitch; RoHS: Y; PinCount: 5; DigiKeyPartNumber: LP2980IM5-3.2-ND; ComponentLink1Description: LP2980 Datasheet; ComponentLink1URL: http://www.national.com/ds/LP/LP2980.pdf; ComponentLink2Description: LP2980 Web Page; ComponentLink2URL: http://www.national.com/pf/LP/LP2980.html; ComponentLink3Description: MF05A Package Page; ComponentLink3URL: http://www.national.com/packaging/folders/mf05a.html
footprint MF05A_N (SOT23, 5-Leads, Body 2.9x1.6mm, Pitch 0.95mm, Lead Span 2.8mm, IPC Medium Density)
footprint MF05A_L (SOT23, 5-Leads, Body 2.9x1.6mm, Pitch 0.95mm, Lead Span 2.8mm, IPC High Density)
footprint MF05A_M (SOT23, 5-Leads, Body 2.9x1.6mm, Pitch 0.95mm, Lead Span 2.8mm, IPC Low Density)
pins: 1 IN (power), 2 GND (power), 3 ON/~{OFF} (in), 4 NC, 5 OUT (power)

## LP2980IM5-3.3
designator U?
Micropower 50 mA Ultra Low-Dropout Regulator In SOT-23 and micro SMD Packages; PartNumber: LP2980IM5-3.3; Manufacturer: National Semiconductor; CompType: LDO IC; PackageTopMarking: L00B*XTT; PowerWise: N; Published: 4-Dec-2008; DatasheetVersion: Sep-2006; PackageVersion: revD, Aug-2008; PackageReference: MF05A; Publisher: Altium Limited; PackageDescription: Molded SOT-23, .115 x .063 x .040 in Body, 5 Lead, .0375 in Pitch; RoHS: O; PinCount: 5; DigiKeyPartNumber: LP2980IM5-3.3CT-ND; ComponentLink1Description: LP2980 Datasheet; ComponentLink1URL: http://www.national.com/ds/LP/LP2980.pdf; ComponentLink2Description: LP2980 Web Page; ComponentLink2URL: http://www.national.com/pf/LP/LP2980.html; ComponentLink3Description: MF05A Package Page; ComponentLink3URL: http://www.national.com/packaging/folders/mf05a.html
footprint MF05A_N (SOT23, 5-Leads, Body 2.9x1.6mm, Pitch 0.95mm, Lead Span 2.8mm, IPC Medium Density)
footprint MF05A_L (SOT23, 5-Leads, Body 2.9x1.6mm, Pitch 0.95mm, Lead Span 2.8mm, IPC High Density)
footprint MF05A_M (SOT23, 5-Leads, Body 2.9x1.6mm, Pitch 0.95mm, Lead Span 2.8mm, IPC Low Density)
pins: 1 IN (power), 2 GND (power), 3 ON/~{OFF} (in), 4 NC, 5 OUT (power)

## LP2980IM5-3.8
designator U?
Micropower 50 mA Ultra Low-Dropout Regulator In SOT-23 and micro SMD Packages; PartNumber: LP2980IM5-3.8; Manufacturer: National Semiconductor; CompType: LDO IC; PackageTopMarking: L21B*XTT; PowerWise: N; Published: 4-Dec-2008; DatasheetVersion: Sep-2006; PackageVersion: revD, Aug-2008; PackageReference: MF05A; Publisher: Altium Limited; PackageDescription: Molded SOT-23, .115 x .063 x .040 in Body, 5 Lead, .0375 in Pitch; RoHS: Y; PinCount: 5; DigiKeyPartNumber: LP2980IM5-3.8-ND; ComponentLink1Description: LP2980 Datasheet; ComponentLink1URL: http://www.national.com/ds/LP/LP2980.pdf; ComponentLink2Description: LP2980 Web Page; ComponentLink2URL: http://www.national.com/pf/LP/LP2980.html; ComponentLink3Description: MF05A Package Page; ComponentLink3URL: http://www.national.com/packaging/folders/mf05a.html
footprint MF05A_N (SOT23, 5-Leads, Body 2.9x1.6mm, Pitch 0.95mm, Lead Span 2.8mm, IPC Medium Density)
footprint MF05A_L (SOT23, 5-Leads, Body 2.9x1.6mm, Pitch 0.95mm, Lead Span 2.8mm, IPC High Density)
footprint MF05A_M (SOT23, 5-Leads, Body 2.9x1.6mm, Pitch 0.95mm, Lead Span 2.8mm, IPC Low Density)
pins: 1 IN (power), 2 GND (power), 3 ON/~{OFF} (in), 4 NC, 5 OUT (power)

## LP2980IM5-4.7
designator U?
Micropower 50 mA Ultra Low-Dropout Regulator In SOT-23 and micro SMD Packages; PartNumber: LP2980IM5-4.7; Manufacturer: National Semiconductor; CompType: LDO IC; PackageTopMarking: L37B*XTT; PowerWise: N; Published: 4-Dec-2008; DatasheetVersion: Sep-2006; PackageVersion: revD, Aug-2008; PackageReference: MF05A; Publisher: Altium Limited; PackageDescription: Molded SOT-23, .115 x .063 x .040 in Body, 5 Lead, .0375 in Pitch; RoHS: Y; PinCount: 5; DigiKeyPartNumber: LP2980IM5-4.7-ND; ComponentLink1Description: LP2980 Datasheet; ComponentLink1URL: http://www.national.com/ds/LP/LP2980.pdf; ComponentLink2Description: LP2980 Web Page; ComponentLink2URL: http://www.national.com/pf/LP/LP2980.html; ComponentLink3Description: MF05A Package Page; ComponentLink3URL: http://www.national.com/packaging/folders/mf05a.html
footprint MF05A_N (SOT23, 5-Leads, Body 2.9x1.6mm, Pitch 0.95mm, Lead Span 2.8mm, IPC Medium Density)
footprint MF05A_L (SOT23, 5-Leads, Body 2.9x1.6mm, Pitch 0.95mm, Lead Span 2.8mm, IPC High Density)
footprint MF05A_M (SOT23, 5-Leads, Body 2.9x1.6mm, Pitch 0.95mm, Lead Span 2.8mm, IPC Low Density)
pins: 1 IN (power), 2 GND (power), 3 ON/~{OFF} (in), 4 NC, 5 OUT (power)

## LP2980IM5-5.0
designator U?
Micropower 50 mA Ultra Low-Dropout Regulator In SOT-23 and micro SMD Packages; PartNumber: LP2980IM5-5.0; Manufacturer: National Semiconductor; CompType: LDO IC; PackageTopMarking: L01B*XTT; PowerWise: N; Published: 4-Dec-2008; DatasheetVersion: Sep-2006; PackageVersion: revD, Aug-2008; PackageReference: MF05A; Publisher: Altium Limited; PackageDescription: Molded SOT-23, .115 x .063 x .040 in Body, 5 Lead, .0375 in Pitch; RoHS: O; PinCount: 5; DigiKeyPartNumber: LP2980IM5-5.0CT-ND; ComponentLink1Description: LP2980 Datasheet; ComponentLink1URL: http://www.national.com/ds/LP/LP2980.pdf; ComponentLink2Description: LP2980 Web Page; ComponentLink2URL: http://www.national.com/pf/LP/LP2980.html; ComponentLink3Description: MF05A Package Page; ComponentLink3URL: http://www.national.com/packaging/folders/mf05a.html
footprint MF05A_N (SOT23, 5-Leads, Body 2.9x1.6mm, Pitch 0.95mm, Lead Span 2.8mm, IPC Medium Density)
footprint MF05A_L (SOT23, 5-Leads, Body 2.9x1.6mm, Pitch 0.95mm, Lead Span 2.8mm, IPC High Density)
footprint MF05A_M (SOT23, 5-Leads, Body 2.9x1.6mm, Pitch 0.95mm, Lead Span 2.8mm, IPC Low Density)
pins: 1 IN (power), 2 GND (power), 3 ON/~{OFF} (in), 4 NC, 5 OUT (power)

## LP2980IM5-ADJ
designator U?
Micropower 50 mA Ultra Low-Dropout Regulator In SOT-23 and micro SMD Packages; PartNumber: LP2980IM5-ADJ; Manufacturer: National Semiconductor; CompType: LDO IC; PackageTopMarking: L06B*XTT; PowerWise: N; Published: 4-Dec-2008; DatasheetVersion: Sep-2006; PackageVersion: revD, Aug-2008; PackageReference: MF05A; Publisher: Altium Limited; PackageDescription: Molded SOT-23, .115 x .063 x .040 in Body, 5 Lead, .0375 in Pitch; RoHS: O; PinCount: 5; DigiKeyPartNumber: LP2980IM5-ADJCT-ND; ComponentLink1Description: LP2980-ADJ Datasheet; ComponentLink1URL: http://www.national.com/ds/LP/LP2980-ADJ.pdf; ComponentLink2Description: LP2980-ADJ Web Page; ComponentLink2URL: http://www.national.com/pf/LP/LP2980-ADJ.html; ComponentLink3Description: MF05A Package Page; ComponentLink3URL: http://www.national.com/packaging/folders/mf05a.html
footprint MF05A_N (SOT23, 5-Leads, Body 2.9x1.6mm, Pitch 0.95mm, Lead Span 2.8mm, IPC Medium Density)
footprint MF05A_L (SOT23, 5-Leads, Body 2.9x1.6mm, Pitch 0.95mm, Lead Span 2.8mm, IPC High Density)
footprint MF05A_M (SOT23, 5-Leads, Body 2.9x1.6mm, Pitch 0.95mm, Lead Span 2.8mm, IPC Low Density)
pins: 1 IN (power), 2 GND (power), 3 ON/~{OFF} (in), 4 ADJ (in), 5 OUT (power)

## LP2980IM5-ADJEP
designator U?
Micropower 50 mA Ultra Low-Dropout Regulator In SOT-23 and micro SMD Packages; PartNumber: LP2980IM5-ADJEP; Manufacturer: National Semiconductor; CompType: LDO IC; PackageTopMarking: L06J*XTT; PowerWise: N; Published: 4-Dec-2008; DatasheetVersion: Dec-2006; PackageVersion: revD, Aug-2008; PackageReference: MF05A; Publisher: Altium Limited; PackageDescription: Molded SOT-23, .115 x .063 x .040 in Body, 5 Lead, .0375 in Pitch; RoHS: N; PinCount: 5; ComponentLink1Description: LP2980-ADJEP Datasheet; ComponentLink1URL: http://www.national.com/ds/LP/LP2980-ADJEP.pdf; ComponentLink2Description: LP2980-ADJEP Web Page; ComponentLink2URL: http://www.national.com/pf/LP/LP2980-ADJEP.html; ComponentLink3Description: MF05A Package Page; ComponentLink3URL: http://www.national.com/packaging/folders/mf05a.html
footprint MF05A_N (SOT23, 5-Leads, Body 2.9x1.6mm, Pitch 0.95mm, Lead Span 2.8mm, IPC Medium Density)
footprint MF05A_L (SOT23, 5-Leads, Body 2.9x1.6mm, Pitch 0.95mm, Lead Span 2.8mm, IPC High Density)
footprint MF05A_M (SOT23, 5-Leads, Body 2.9x1.6mm, Pitch 0.95mm, Lead Span 2.8mm, IPC Low Density)
pins: 1 IN (power), 2 GND (power), 3 ON/~{OFF} (in), 4 ADJ (in), 5 OUT (power)

## LP2981AIM5-2.5
designator U?
Micropower 100 mA Ultra Low-Dropout Regulator in SOT-23 and micro SMD Packages; PartNumber: LP2981AIM5-2.5; Manufacturer: National Semiconductor; CompType: LDO IC; PackageTopMarking: L0CA*XTT; PowerWise: N; Published: 4-Dec-2008; DatasheetVersion: Feb-2006; PackageVersion: revD, Aug-2008; PackageReference: MF05A; Publisher: Altium Limited; PackageDescription: Molded SOT-23, .115 x .063 x .040 in Body, 5 Lead, .0375 in Pitch; RoHS: O; PinCount: 5; DigiKeyPartNumber: LP2981AIM5-2.5CT-ND; ComponentLink1Description: LP2981 Datasheet; ComponentLink1URL: http://www.national.com/ds/LP/LP2981.pdf; ComponentLink2Description: LP2981 Web Page; ComponentLink2URL: http://www.national.com/pf/LP/LP2981.html; ComponentLink3Description: MF05A Package Page; ComponentLink3URL: http://www.national.com/packaging/folders/mf05a.html
footprint MF05A_N (SOT23, 5-Leads, Body 2.9x1.6mm, Pitch 0.95mm, Lead Span 2.8mm, IPC Medium Density)
footprint MF05A_L (SOT23, 5-Leads, Body 2.9x1.6mm, Pitch 0.95mm, Lead Span 2.8mm, IPC High Density)
footprint MF05A_M (SOT23, 5-Leads, Body 2.9x1.6mm, Pitch 0.95mm, Lead Span 2.8mm, IPC Low Density)
pins: 1 IN (power), 2 GND (power), 3 ON/~{OFF} (in), 4 NC, 5 OUT (power)

## LP2981AIM5-2.7
designator U?
Micropower 100 mA Ultra Low-Dropout Regulator in SOT-23 and micro SMD Packages; PartNumber: LP2981AIM5-2.7; Manufacturer: National Semiconductor; CompType: LDO IC; PackageTopMarking: L0DA*XTT; Published: 4-Dec-2008; DatasheetVersion: Feb-2006; PackageVersion: revD, Aug-2008; PackageReference: MF05A; Publisher: Altium Limited; PackageDescription: Molded SOT-23, .115 x .063 x .040 in Body, 5 Lead, .0375 in Pitch; RoHS: Y; PinCount: 5; DigiKeyPartNumber: LP2981AIM5-2.7CT-ND; ComponentLink1Description: LP2981 Datasheet; ComponentLink1URL: http://www.national.com/ds/LP/LP2981.pdf; ComponentLink2Description: LP2981 Web Page; ComponentLink2URL: http://www.national.com/pf/LP/LP2981.html; ComponentLink3Description: MF05A Package Page; ComponentLink3URL: http://www.national.com/packaging/folders/mf05a.html
footprint MF05A_N (SOT23, 5-Leads, Body 2.9x1.6mm, Pitch 0.95mm, Lead Span 2.8mm, IPC Medium Density)
footprint MF05A_L (SOT23, 5-Leads, Body 2.9x1.6mm, Pitch 0.95mm, Lead Span 2.8mm, IPC High Density)
footprint MF05A_M (SOT23, 5-Leads, Body 2.9x1.6mm, Pitch 0.95mm, Lead Span 2.8mm, IPC Low Density)
pins: 1 IN (power), 2 GND (power), 3 ON/~{OFF} (in), 4 NC, 5 OUT (power)

## LP2981AIM5-2.8
designator U?
Micropower 100 mA Ultra Low-Dropout Regulator in SOT-23 and micro SMD Packages; PartNumber: LP2981AIM5-2.8; Manufacturer: National Semiconductor; CompType: LDO IC; PackageTopMarking: L77A*XTT; Published: 4-Dec-2008; DatasheetVersion: Feb-2006; PackageVersion: revD, Aug-2008; PackageReference: MF05A; Publisher: Altium Limited; PackageDescription: Molded SOT-23, .115 x .063 x .040 in Body, 5 Lead, .0375 in Pitch; RoHS: Y; PinCount: 5; DigiKeyPartNumber: LP2981AIM5-2.8CT-ND; ComponentLink1Description: LP2981 Datasheet; ComponentLink1URL: http://www.national.com/ds/LP/LP2981.pdf; ComponentLink2Description: LP2981 Web Page; ComponentLink2URL: http://www.national.com/pf/LP/LP2981.html; ComponentLink3Description: MF05A Package Page; ComponentLink3URL: http://www.national.com/packaging/folders/mf05a.html
footprint MF05A_N (SOT23, 5-Leads, Body 2.9x1.6mm, Pitch 0.95mm, Lead Span 2.8mm, IPC Medium Density)
footprint MF05A_L (SOT23, 5-Leads, Body 2.9x1.6mm, Pitch 0.95mm, Lead Span 2.8mm, IPC High Density)
footprint MF05A_M (SOT23, 5-Leads, Body 2.9x1.6mm, Pitch 0.95mm, Lead Span 2.8mm, IPC Low Density)
pins: 1 IN (power), 2 GND (power), 3 ON/~{OFF} (in), 4 NC, 5 OUT (power)

## LP2981AIM5-3.0
designator U?
Micropower 100 mA Ultra Low-Dropout Regulator in SOT-23 and micro SMD Packages; PartNumber: LP2981AIM5-3.0; Manufacturer: National Semiconductor; CompType: LDO IC; PackageTopMarking: L05A*XTT; PowerWise: N; Published: 4-Dec-2008; DatasheetVersion: Feb-2006; PackageVersion: revD, Aug-2008; PackageReference: MF05A; Publisher: Altium Limited; PackageDescription: Molded SOT-23, .115 x .063 x .040 in Body, 5 Lead, .0375 in Pitch; RoHS: Y; PinCount: 5; DigiKeyPartNumber: LP2981AIM5-3.0CT-ND; ComponentLink1Description: LP2981 Datasheet; ComponentLink1URL: http://www.national.com/ds/LP/LP2981.pdf; ComponentLink2Description: LP2981 Web Page; ComponentLink2URL: http://www.national.com/pf/LP/LP2981.html; ComponentLink3Description: MF05A Package Page; ComponentLink3URL: http://www.national.com/packaging/folders/mf05a.html
footprint MF05A_N (SOT23, 5-Leads, Body 2.9x1.6mm, Pitch 0.95mm, Lead Span 2.8mm, IPC Medium Density)
footprint MF05A_L (SOT23, 5-Leads, Body 2.9x1.6mm, Pitch 0.95mm, Lead Span 2.8mm, IPC High Density)
footprint MF05A_M (SOT23, 5-Leads, Body 2.9x1.6mm, Pitch 0.95mm, Lead Span 2.8mm, IPC Low Density)
pins: 1 IN (power), 2 GND (power), 3 ON/~{OFF} (in), 4 NC, 5 OUT (power)

## LP2981AIM5-3.2
designator U?
Micropower 100 mA Ultra Low-Dropout Regulator in SOT-23 and micro SMD Packages; PartNumber: LP2981AIM5-3.2; Manufacturer: National Semiconductor; CompType: LDO IC; PackageTopMarking: L35A*XTT; Published: 4-Dec-2008; DatasheetVersion: Feb-2006; PackageVersion: revD, Aug-2008; PackageReference: MF05A; Publisher: Altium Limited; PackageDescription: Molded SOT-23, .115 x .063 x .040 in Body, 5 Lead, .0375 in Pitch; RoHS: N; PinCount: 5; DigiKeyPartNumber: LP2981AIM5-3.2CT-ND; ComponentLink1Description: LP2981 Datasheet; ComponentLink1URL: http://www.national.com/ds/LP/LP2981.pdf; ComponentLink2Description: LP2981 Web Page; ComponentLink2URL: http://www.national.com/pf/LP/LP2981.html; ComponentLink3Description: MF05A Package Page; ComponentLink3URL: http://www.national.com/packaging/folders/mf05a.html
footprint MF05A_N (SOT23, 5-Leads, Body 2.9x1.6mm, Pitch 0.95mm, Lead Span 2.8mm, IPC Medium Density)
footprint MF05A_L (SOT23, 5-Leads, Body 2.9x1.6mm, Pitch 0.95mm, Lead Span 2.8mm, IPC High Density)
footprint MF05A_M (SOT23, 5-Leads, Body 2.9x1.6mm, Pitch 0.95mm, Lead Span 2.8mm, IPC Low Density)
pins: 1 IN (power), 2 GND (power), 3 ON/~{OFF} (in), 4 NC, 5 OUT (power)

## LP2981AIM5-3.3
designator U?
Micropower 100 mA Ultra Low-Dropout Regulator in SOT-23 and micro SMD Packages; PartNumber: LP2981AIM5-3.3; Manufacturer: National Semiconductor; CompType: LDO IC; PackageTopMarking: L04A*XTT; PowerWise: N; Published: 4-Dec-2008; DatasheetVersion: Feb-2006; PackageVersion: revD, Aug-2008; PackageReference: MF05A; Publisher: Altium Limited; PackageDescription: Molded SOT-23, .115 x .063 x .040 in Body, 5 Lead, .0375 in Pitch; RoHS: O; PinCount: 5; DigiKeyPartNumber: LP2981AIM5-3.3TR-ND; ComponentLink1Description: LP2981 Datasheet; ComponentLink1URL: http://www.national.com/ds/LP/LP2981.pdf; ComponentLink2Description: LP2981 Web Page; ComponentLink2URL: http://www.national.com/pf/LP/LP2981.html; ComponentLink3Description: MF05A Package Page; ComponentLink3URL: http://www.national.com/packaging/folders/mf05a.html
footprint MF05A_N (SOT23, 5-Leads, Body 2.9x1.6mm, Pitch 0.95mm, Lead Span 2.8mm, IPC Medium Density)
footprint MF05A_L (SOT23, 5-Leads, Body 2.9x1.6mm, Pitch 0.95mm, Lead Span 2.8mm, IPC High Density)
footprint MF05A_M (SOT23, 5-Leads, Body 2.9x1.6mm, Pitch 0.95mm, Lead Span 2.8mm, IPC Low Density)
pins: 1 IN (power), 2 GND (power), 3 ON/~{OFF} (in), 4 NC, 5 OUT (power)

## LP2981AIM5-3.6
designator U?
Micropower 100 mA Ultra Low-Dropout Regulator in SOT-23 and micro SMD Packages; PartNumber: LP2981AIM5-3.6; Manufacturer: National Semiconductor; CompType: LDO IC; PackageTopMarking: L0JA*XTT; PowerWise: N; Published: 4-Dec-2008; DatasheetVersion: Feb-2006; PackageVersion: revD, Aug-2008; PackageReference: MF05A; Publisher: Altium Limited; PackageDescription: Molded SOT-23, .115 x .063 x .040 in Body, 5 Lead, .0375 in Pitch; RoHS: Y; PinCount: 5; DigiKeyPartNumber: LP2981AIM5-3.6CT-ND; ComponentLink1Description: LP2981 Datasheet; ComponentLink1URL: http://www.national.com/ds/LP/LP2981.pdf; ComponentLink2Description: LP2981 Web Page; ComponentLink2URL: http://www.national.com/pf/LP/LP2981.html; ComponentLink3Description: MF05A Package Page; ComponentLink3URL: http://www.national.com/packaging/folders/mf05a.html
footprint MF05A_N (SOT23, 5-Leads, Body 2.9x1.6mm, Pitch 0.95mm, Lead Span 2.8mm, IPC Medium Density)
footprint MF05A_L (SOT23, 5-Leads, Body 2.9x1.6mm, Pitch 0.95mm, Lead Span 2.8mm, IPC High Density)
footprint MF05A_M (SOT23, 5-Leads, Body 2.9x1.6mm, Pitch 0.95mm, Lead Span 2.8mm, IPC Low Density)
pins: 1 IN (power), 2 GND (power), 3 ON/~{OFF} (in), 4 NC, 5 OUT (power)

## LP2981AIM5-3.8
designator U?
Micropower 100 mA Ultra Low-Dropout Regulator in SOT-23 and micro SMD Packages; PartNumber: LP2981AIM5-3.8; Manufacturer: National Semiconductor; CompType: LDO IC; PackageTopMarking: L36A*XTT; Published: 4-Dec-2008; DatasheetVersion: Feb-2006; PackageVersion: revD, Aug-2008; PackageReference: MF05A; Publisher: Altium Limited; PackageDescription: Molded SOT-23, .115 x .063 x .040 in Body, 5 Lead, .0375 in Pitch; RoHS: Y; PinCount: 5; DigiKeyPartNumber: LP2981AIM5-3.8CT-ND; ComponentLink1Description: LP2981 Datasheet; ComponentLink1URL: http://www.national.com/ds/LP/LP2981.pdf; ComponentLink2Description: LP2981 Web Page; ComponentLink2URL: http://www.national.com/pf/LP/LP2981.html; ComponentLink3Description: MF05A Package Page; ComponentLink3URL: http://www.national.com/packaging/folders/mf05a.html
footprint MF05A_N (SOT23, 5-Leads, Body 2.9x1.6mm, Pitch 0.95mm, Lead Span 2.8mm, IPC Medium Density)
footprint MF05A_L (SOT23, 5-Leads, Body 2.9x1.6mm, Pitch 0.95mm, Lead Span 2.8mm, IPC High Density)
footprint MF05A_M (SOT23, 5-Leads, Body 2.9x1.6mm, Pitch 0.95mm, Lead Span 2.8mm, IPC Low Density)
pins: 1 IN (power), 2 GND (power), 3 ON/~{OFF} (in), 4 NC, 5 OUT (power)

## LP2981AIM5-5.0
designator U?
Micropower 100 mA Ultra Low-Dropout Regulator in SOT-23 and micro SMD Packages; PartNumber: LP2981AIM5-5.0; Manufacturer: National Semiconductor; CompType: LDO IC; PackageTopMarking: L03A*XTT; PowerWise: N; Published: 4-Dec-2008; DatasheetVersion: Feb-2006; PackageVersion: revD, Aug-2008; PackageReference: MF05A; Publisher: Altium Limited; PackageDescription: Molded SOT-23, .115 x .063 x .040 in Body, 5 Lead, .0375 in Pitch; RoHS: O; PinCount: 5; DigiKeyPartNumber: LP2981AIM5-5.0CT-ND; ComponentLink1Description: LP2981 Datasheet; ComponentLink1URL: http://www.national.com/ds/LP/LP2981.pdf; ComponentLink2Description: LP2981 Web Page; ComponentLink2URL: http://www.national.com/pf/LP/LP2981.html; ComponentLink3Description: MF05A Package Page; ComponentLink3URL: http://www.national.com/packaging/folders/mf05a.html
footprint MF05A_N (SOT23, 5-Leads, Body 2.9x1.6mm, Pitch 0.95mm, Lead Span 2.8mm, IPC Medium Density)
footprint MF05A_L (SOT23, 5-Leads, Body 2.9x1.6mm, Pitch 0.95mm, Lead Span 2.8mm, IPC High Density)
footprint MF05A_M (SOT23, 5-Leads, Body 2.9x1.6mm, Pitch 0.95mm, Lead Span 2.8mm, IPC Low Density)
pins: 1 IN (power), 2 GND (power), 3 ON/~{OFF} (in), 4 NC, 5 OUT (power)